# EAGLE library part TC2050-IDC-NL (library parts)
PIN HEADER
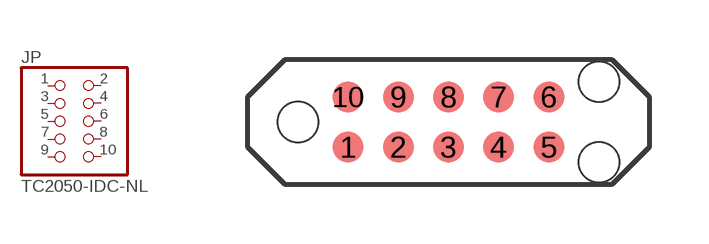
[diagram p1: symbol with the pads of TC2050-IDC-NL; footprint TC2050-IDC-NL]

Designator prefix JP

## TC2050-IDC-NLTC2050-IDC-NL  [TC2050-IDC-NL]
1  1  pas
2  2  pas
3  3  pas
4  4  pas
5  5  pas
6  6  pas
7  7  pas
8  8  pas
9  9  pas
10  10  pas

## Footprint TC2050-IDC-NL (pad centres in mm)
smd 0.787 x 0.787: 1 1.27,-0.635; 2 2.54,-0.635; 3 3.81,-0.635; 4 5.08,-0.635; 5 6.35,-0.635; 6 6.35,0.635; 7 5.08,0.635; 8 3.81,0.635; 9 2.54,0.635; 10 1.27,0.635
hole 1.016 at 0,0
hole 1.016 at 7.62,1.016
hole 1.016 at 7.62,-1.016